# EAGLE library part MCP4131 (library microchip)
MCP4131 digital potentiometer.
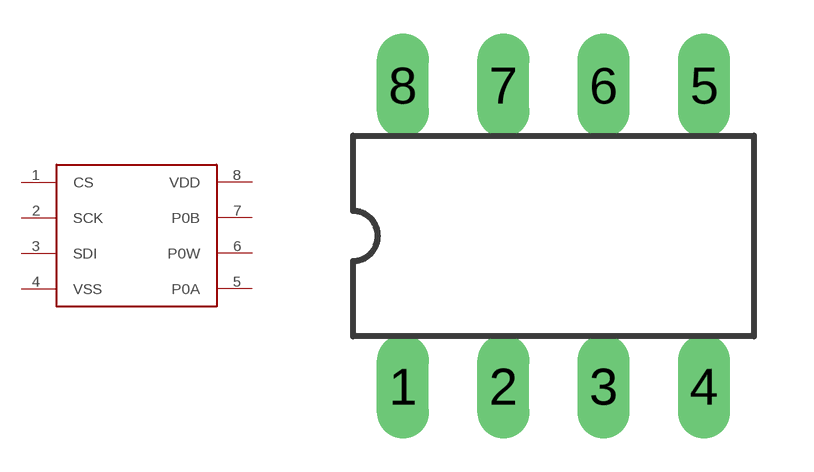
[diagram p0: symbol with the pads of DIL8; footprint DIL8]

Designator prefix U

## MCP4131  [DIL8]
1  CS
2  SCK
3  SDI
4  VSS
5  P0A
6  P0W
7  P0B
8  VDD

## Footprint DIL8 (pad centres in mm)
Dual In Line package type P
drill 0.813 long: 1 -3.81,-3.81; 2 -1.27,-3.81; 3 1.27,-3.81; 4 3.81,-3.81; 5 3.81,3.81; 6 1.27,3.81; 7 -1.27,3.81; 8 -3.81,3.81